# Altium footprint library BBCMP-P12-L1524W2032.PcbLib: 1 footprints
Each footprint in its own frame and in the unit in brackets; x right, y up, seen from the top. Pads: shape width x height; smd on the part's side, far side on the other; paste and mask are expansions set on the pad; w line width, h text height; cw(c..) or ccw(c..) is an arc to the next point about the centre after c.
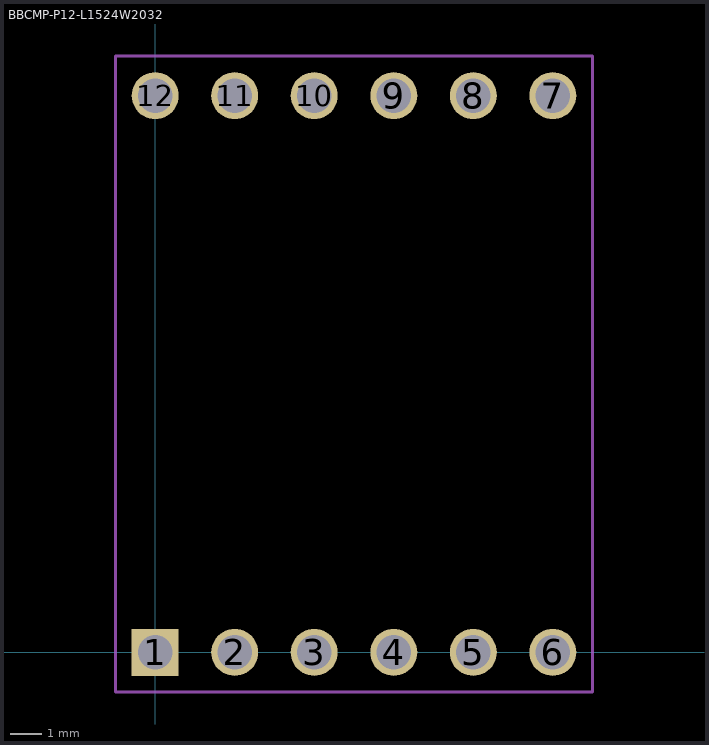
[diagram p0: the footprint, top view; thin cyan lines are the x and y axes]

## BBCMP-P12-L1524W2032 [mm]
pads (12):
  rect 1.5x1.5 hole 1.1: 1(0,0)
  round 1.5 hole 1.1: 2(2.54,0) 3(5.08,0) 4(7.62,0) 5(10.16,0) 6(12.7,0) 7(12.7,17.78) 8(10.16,17.78) 9(7.62,17.78) 10(5.08,17.78) 11(2.54,17.78) 12(0,17.78)
Mechanical 13:
  lines w0.1: -1.27,-1.27 -1.27,19.05 13.97,19.05 13.97,-1.27 -1.27,-1.27
Mechanical 15:
  lines w0.1: -1.27,-1.27 -1.27,19.05 13.97,19.05 13.97,-1.27 -1.27,-1.27
3D body: height 8.52, standoff -3.02, extent -1.27,-1.27 13.97,1.27
3D body: height 8.52, standoff -3.02, extent -1.27,16.51 13.97,19.05